# EAGLE library part CN-ALTERA-JTAG (library Connector)
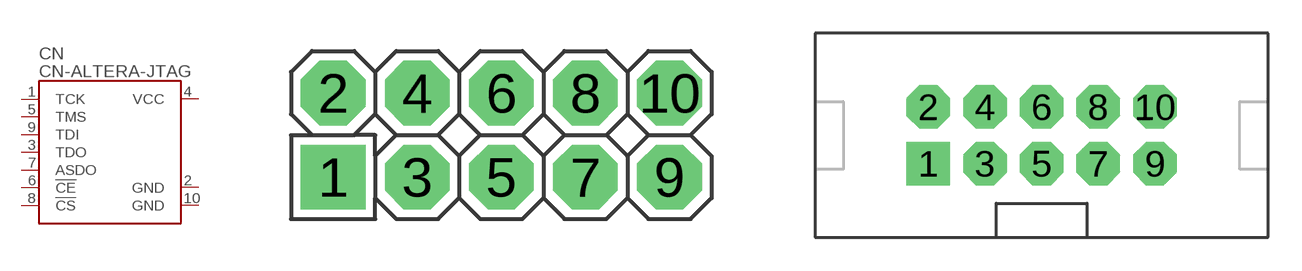
[diagram p9: symbol with the pads of PIN2X5; footprints PIN2X5, PIN2X5-BOX]

Designator prefix CN

## CN-ALTERA-JTAG  [PIN2X5]
1  TCK  pas
2  GND  pas
3  TDO  pas
4  VCC  pas
5  TMS  pas
6  !CE  pas
7  ASDO  pas
8  !CS  pas
9  TDI  pas
10  GND  pas

## CN-ALTERA-JTAG-BOX  [PIN2X5-BOX]
Pads as for PIN2X5

## CN-ALTERA-JTAG-RA-BOX  [PIN2X5-RA-BOX]
Pads as for PIN2X5

## CN-ALTERA-JTAG-RA-KEY  [PIN2X5-RA-KEY]
Pads as for PIN2X5

## Footprint PIN2X5 (pad centres in mm)
drill 1.3 square: 1 -5.08,-1.27
drill 1.3 octagon: 2 -5.08,1.27; 3 -2.54,-1.27; 4 -2.54,1.27; 5 0,-1.27; 6 0,1.27; 7 2.54,-1.27; 8 2.54,1.27; 9 5.08,-1.27; 10 5.08,1.27

## Footprint PIN2X5-BOX (pad centres in mm)
drill 1.3 pad 1.9 square: 1 -5.08,-1.27
drill 1.3 pad 1.9 octagon: 2 -5.08,1.27; 3 -2.54,-1.27; 4 -2.54,1.27; 5 0,-1.27; 6 0,1.27; 7 2.54,-1.27; 8 2.54,1.27; 9 5.08,-1.27; 10 5.08,1.27

## Footprint PIN2X5-RA-BOX (pad centres in mm)
drill 1.3 pad 1.9 square: 1 -5.08,-1.27
drill 1.3 pad 1.9 octagon: 2 -5.08,1.27; 3 -2.54,-1.27; 4 -2.54,1.27; 5 0,-1.27; 6 0,1.27; 7 2.54,-1.27; 8 2.54,1.27; 9 5.08,-1.27; 10 5.08,1.27

## Footprint PIN2X5-RA-KEY (pad centres in mm)
drill 1.3 pad 1.9 square: 1 5.08,-1.27
drill 1.3 pad 1.9 octagon: 2 5.08,1.27; 3 2.54,-1.27; 4 2.54,1.27; 5 0,-1.27; 6 0,1.27; 7 -2.54,-1.27; 8 -2.54,1.27; 9 -5.08,-1.27; 10 -5.08,1.27